# Altium footprint library can_2.5_0.PcbLib: 1 footprints
Each footprint in its own frame and in the unit in brackets; x right, y up, seen from the top. Pads: shape width x height; smd on the part's side, far side on the other; paste and mask are expansions set on the pad; w line width, h text height; cw(c..) or ccw(c..) is an arc to the next point about the centre after c.
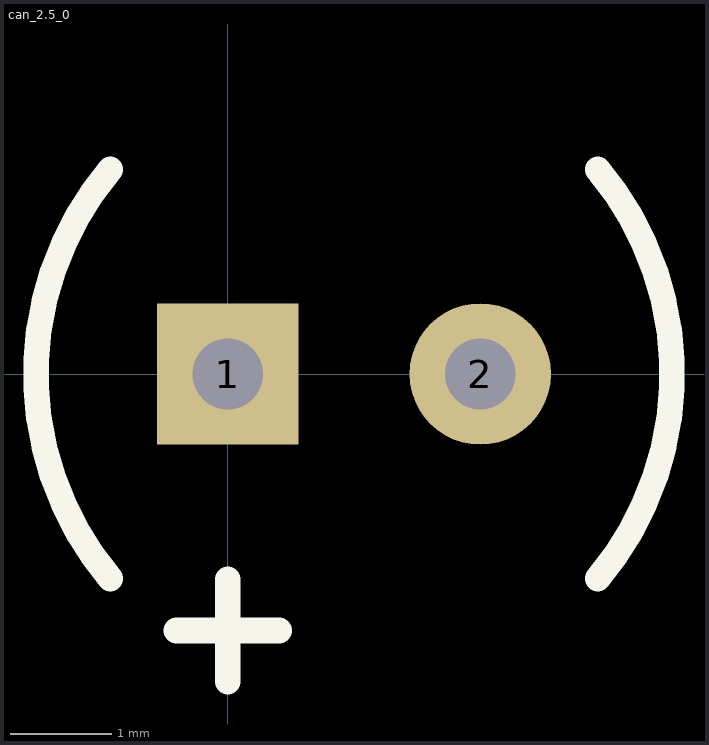
[diagram p0: the footprint, top view; thin cyan lines are the x and y axes]

## can_2.5_0 [mm] "2 Leaded Al Cap, 2.5mm spacing, 6.3mm diameter"
height 20
pads (2):
  rect 1.4x1.4 hole 0.7: 1(0,0)
  round 1.4 hole 0.7: 2(2.5,0)
Top Overlay:
  lines w0.254: -1.163,-2.025 cw(c1.25,0) -1.163,2.025 ; -0.508,-2.54 0.508,-2.54 ; 0,-3.048 0,-2.032 ; 3.663,-2.025 ccw(c1.25,0) 3.663,2.025